# EAGLE library part К176ИЕ5 (library К176)
К176ИЕ5 генератор делитель на 32768
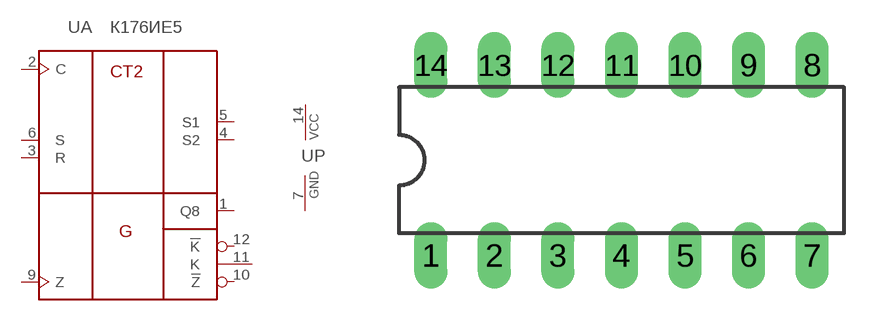
[diagram p4: symbol with the pads of DIL14; footprint DIL14]

Designator prefix -; gates A=К176ИЕ5 P=PWRN

## К176ИЕ5  [DIL14]
1  A:Q8  out
2  A:C  in
3  A:R  in
4  A:S2  out
5  A:S1  out
6  A:S  in
7  P:GND  pwr
9  A:Z  in
10  A:!Z  out
11  A:K
12  A:!K  out
14  P:VCC  pwr

## Footprint DIL14 (pad centres in mm)
Dual In Line Package
drill 0.813 long: 1 -7.62,-3.81; 2 -5.08,-3.81; 3 -2.54,-3.81; 4 0,-3.81; 5 2.54,-3.81; 6 5.08,-3.81; 7 7.62,-3.81; 8 7.62,3.81; 9 5.08,3.81; 10 2.54,3.81; 11 0,3.81; 12 -2.54,3.81; 13 -5.08,3.81; 14 -7.62,3.81